# Altium footprint library SIGMA.PcbLib: 6 footprints
Each footprint in its own frame and in the unit in brackets; x right, y up, seen from the top. Pads: shape width x height; smd on the part's side, far side on the other; paste and mask are expansions set on the pad; w line width, h text height; cw(c..) or ccw(c..) is an arc to the next point about the centre after c.
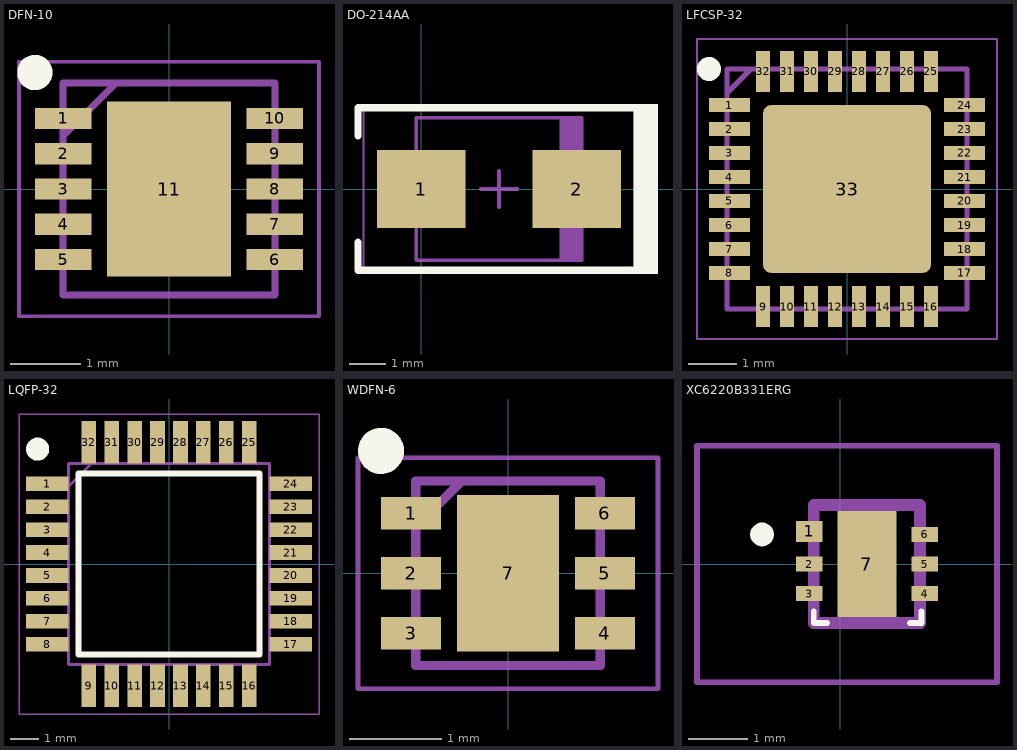
[diagram p0: the footprints below, top view; thin cyan lines are the x and y axes]

## DFN-10 [mm]
pads (11):
  rect 0.8x0.3 smd: 1(-1.5,1) 2(-1.5,0.5) 3(-1.5,0) 4(-1.5,-0.5) 5(-1.5,-1) 6(1.5,-1) 7(1.5,-0.5) 8(1.5,0) 9(1.5,0.5) 10(1.5,1)
  rect 1.75x2.48 smd: 11(0,0)
Top Overlay:
  circle w0.25: c-1.9,1.65 r0.125
Mechanical 13:
  lines w0.1: -1.5,0.75 -0.75,1.5 ; -1.5,-1.5 -1.5,1.5 1.5,1.5 1.5,-1.5 -1.5,-1.5
Mechanical 15:
  lines w0.05: -2.125,-1.8 -2.125,1.8 2.125,1.8 2.125,-1.8 -2.125,-1.8
3D body "LTC3105EDD#PBF.stp": height 0.8, standoff 0, extent -1.55,-1.5 1.55,1.5

## DO-214AA [mm] "Diode"
pads (2):
  rect 2.45x2.15 smd: 1(0,0) 2(4.3,0)
Top Overlay:
  rectangle: 5.875,-2.35 6.55,2.35
  lines w0.2: -1.75,-1.475 -1.75,-2.25 6.05,-2.25 ; -1.75,1.475 -1.75,2.25 6.05,2.25
Mechanical 13:
  rectangle: 3.82,-1.97 4.435,1.97
  lines w0.1: -0.135,-1.97 4.435,-1.97 4.435,1.97 -0.135,1.97 -0.135,-1.97
Mechanical 15:
  lines w0.05: -1.6,-2.25 5.9,-2.25 5.9,2.25 -1.6,2.25 -1.6,-2.25
  lines w0.1: 1.65,0 2.65,0 ; 2.15,-0.5 2.15,0.5
3D body "SMB.STEP": height 2.4, standoff 0, extent -0.45,-1.799 4.75,1.8

## LFCSP-32 [mm] "SIGMADSP CODEC"
pads (33):
  rect 0.85x0.3 smd: 1(-2.45,1.75) 2(-2.45,1.25) 3(-2.45,0.75) 4(-2.45,0.25) 5(-2.45,-0.25) 6(-2.45,-0.75) 7(-2.45,-1.25) 8(-2.45,-1.75) 17(2.45,-1.75) 18(2.45,-1.25) 19(2.45,-0.75) 20(2.45,-0.25) 21(2.45,0.25) 22(2.45,0.75) 23(2.45,1.25) 24(2.45,1.75)
  rect 0.3x0.85 smd: 9(-1.75,-2.45) 10(-1.25,-2.45) 11(-0.75,-2.45) 12(-0.25,-2.45) 13(0.25,-2.45) 14(0.75,-2.45) 15(1.25,-2.45) 16(1.75,-2.45) 25(1.75,2.45) 26(1.25,2.45) 27(0.75,2.45) 28(0.25,2.45) 29(-0.25,2.45) 30(-0.75,2.45) 31(-1.25,2.45) 32(-1.75,2.45)
  rrect10% 3.5x3.5 smd: 33(0,0)
Top Overlay:
  circle w0.25: c-2.875,2.5 r0.125
Mechanical 13:
  lines w0.1: -2.5,2 -2,2.5 ; -2.5,-2.5 -2.5,2.5 2.5,2.5 2.5,-2.5 -2.5,-2.5
Mechanical 15:
  lines w0.05: -3.125,-3.125 -3.125,3.125 3.125,3.125 3.125,-3.125 -3.125,-3.125
3D body "ADAU1761BCPZ.stp": height 1, standoff 0, extent -2.55,-2.55 2.55,2.55

## LQFP-32 [mm] "STM32L0"
pads (32):
  rect 1.475x0.508 smd: 1(-4.238,2.8) 2(-4.238,2) 3(-4.238,1.2) 4(-4.238,0.4) 5(-4.238,-0.4) 6(-4.238,-1.2) 7(-4.238,-2) 8(-4.238,-2.8) 17(4.238,-2.8) 18(4.238,-2) 19(4.238,-1.2) 20(4.238,-0.4) 21(4.238,0.4) 22(4.238,1.2) 23(4.238,2) 24(4.238,2.8)
  rect 0.508x1.475 smd: 9(-2.8,-4.238) 10(-2,-4.238) 11(-1.2,-4.238) 12(-0.4,-4.238) 13(0.4,-4.238) 14(1.2,-4.238) 15(2,-4.238) 16(2.8,-4.238) 25(2.8,4.238) 26(2,4.238) 27(1.2,4.238) 28(0.4,4.238) 29(-0.4,4.238) 30(-1.2,4.238) 31(-2,4.238) 32(-2.8,4.238)
Top Overlay:
  circle w0.4: c-4.575,4 r0.2
  lines w0.2: -3.15,-3.15 -3.15,3.15 3.15,3.15 3.15,-3.15 -3.15,-3.15
Mechanical 13:
  lines w0.1: -3.5,2.7 -2.7,3.5 ; -3.5,-3.5 -3.5,3.5 3.5,3.5 3.5,-3.5 -3.5,-3.5
Mechanical 15:
  lines w0.05: -5.225,-5.225 -5.225,5.225 5.225,5.225 5.225,-5.225 -5.225,-5.225
3D body "STM32L031K6T7.stp": height 1.6, standoff 0, extent -4.5,-4.5 4.5,4.5

## WDFN-6 [mm]
pads (7):
  rect 0.65x0.35 smd: 1(-1.05,0.65) 2(-1.05,0) 3(-1.05,-0.65) 4(1.05,-0.65) 5(1.05,0) 6(1.05,0.65)
  rect 1.1x1.7 smd: 7(0,0)
Top Overlay:
  circle w0.25: c-1.375,1.325 r0.125
Mechanical 13:
  lines w0.1: -1,0.5 -0.5,1 ; -1,-1 1,-1 1,1 -1,1 -1,-1
Mechanical 15:
  lines w0.05: -1.625,-1.25 1.625,-1.25 1.625,1.25 -1.625,1.25 -1.625,-1.25
3D body "NCV8187AMT120TAG.stp": height 0.8, standoff 0, extent -1.05,-1 1.05,1

## XC6220B331ERG [mm]
pads (7):
  rect 0.45x0.35 smd: 1(-0.525,0.55)
  rect 0.45x0.25 smd: 2(-0.525,0) 3(-0.525,-0.5) 4(1.425,-0.5) 5(1.425,0) 6(1.425,0.5)
  rect 1x1.8 smd: 7(0.45,0)
Top Overlay:
  lines w0.1: -0.45,-0.8 -0.45,-1 -0.225,-1 ; 1.175,-1 1.375,-1 1.375,-0.8
  lines w0.2: -1.325,0.4 ccw(c-1.325,0.5) -1.325,0.6 ccw(c-1.325,0.5) -1.325,0.4
Mechanical 13:
  lines w0.2: -0.45,-1 1.35,-1 1.35,1 -0.45,1 -0.45,-1
Mechanical 15:
  lines w0.1: -2.425,-2 2.65,-2 2.65,2 -2.425,2 -2.425,-2
3D body "XC6220B331ER-G.stp": height 1.1, standoff 0, extent -0.45,-1 1.35,1